# Altium footprint library MCP17003302ETO.PcbLib: 1 footprints
Each footprint in its own frame and in the unit in brackets; x right, y up, seen from the top. Pads: shape width x height; smd on the part's side, far side on the other; paste and mask are expansions set on the pad; w line width, h text height; cw(c..) or ccw(c..) is an arc to the next point about the centre after c.
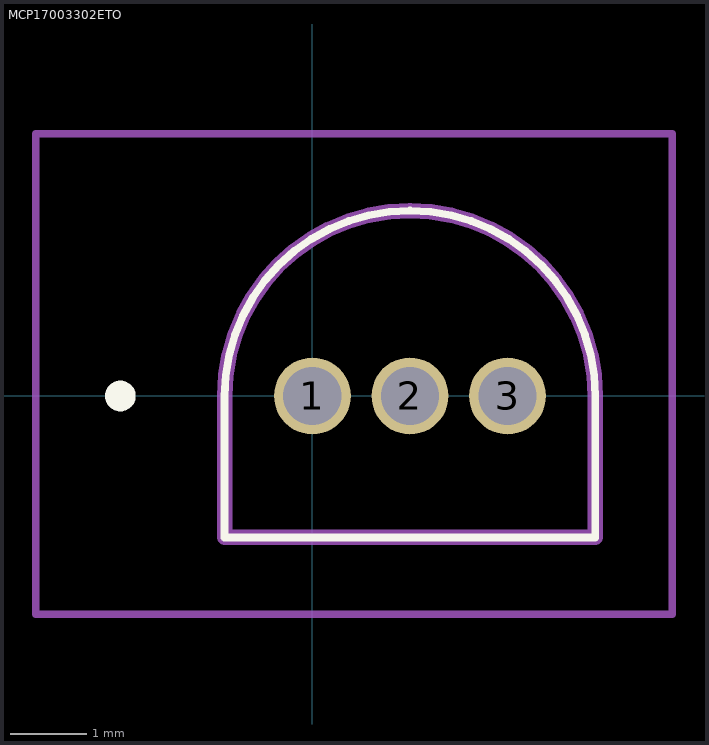
[diagram p0: the footprint, top view; thin cyan lines are the x and y axes]

## MCP17003302ETO [mm]
pads (3):
  round 1 hole 0.759: 1(0,0) 2(1.27,0) 3(2.54,0)
Top Overlay:
  lines w0.1: -1.143,-1.841 3.683,-1.841 ; -1.143,-1.841 3.683,-1.841 ; -1.143,-1.841 -1.143,-1.841 ; -1.143,-1.841 -1.143,0 ; -1.143,-1.841 -1.143,-1.841 ; -1.143,-1.841 -1.143,0 ; -1.143,0 -1.143,0 ; -1.143,0 -1.143,0 ; -1.143,0 cw(c1.27,0) 3.683,0 3.683,-1.841 ; 3.683,-1.841 3.683,-1.841
  lines w0.2: -2.6,0 -2.6,0 ; -2.6,0 ccw(c-2.5,0) -2.4,0 ; -2.6,0 cw(c-2.5,0) -2.4,0 ; -2.6,0 -2.6,0 ; -2.6,0 ccw(c-2.5,0) -2.4,0 ; -2.4,0 -2.4,0
Mechanical 15:
  lines w0.2: -1.143,-1.841 3.683,-1.841 ; -1.143,-1.841 3.683,-1.841 ; -1.143,-1.841 -1.143,-1.841 ; -1.143,-1.841 -1.143,0 ; -1.143,-1.841 -1.143,-1.841 ; -1.143,-1.841 -1.143,0 ; -1.143,0 -1.143,0 ; -1.143,0 -1.143,0 ; -1.143,0 cw(c1.27,0) 3.683,0 3.683,-1.841 ; 3.683,-1.841 3.683,-1.841
Mechanical 20:
  lines w0.1: -3.6,-2.841 4.683,-2.841 4.683,3.413 -3.6,3.413 -3.6,-2.841